# EAGLE library part PAM2306AYPKE (library SamacSys_Parts)
DUAL PWM ST-DOWN DC-DC CONVerter DiodesZetex PAM2306AYPKE, Dual Step Down DC-DC Converter, 1A, Maximum of 3.3 V, 12-Pin WDFN Source: Datasheet <https://componentsearchengine.com/Datasheets/1/PAM2306AYPKE.pdf>
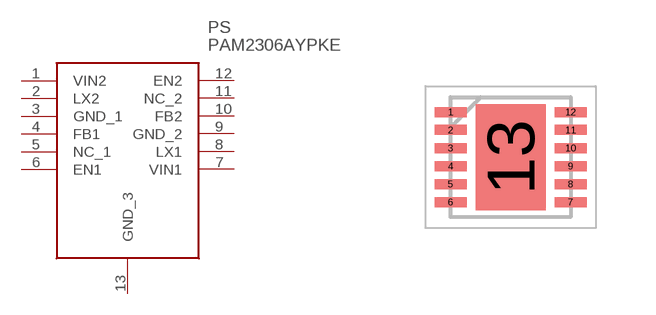
[diagram p0: symbol with the pads of SON45P300X300X80-13N; footprint SON45P300X300X80-13N]

Designator prefix PS

## PAM2306AYPKE (Description: DUAL PWM ST-DOWN DC-DC CONVerter DiodesZetex PAM2306AYPKE, Dual Step Down DC-DC Converter, 1A, Maximum of 3.3 V, 12-Pin WDFN; Height: 0.8mm; Manufacturer_Name: Diodes Inc.; Manufacturer_Part_Number: PAM2306AYPKE; Mouser_Part_Number: 621-PAM2306AYPKE; Mouser_Price-Stock: https://www.mouser.com/Search/Refine.aspx?Keyword=621-PAM2306AYPKE)  [SON45P300X300X80-13N]
1  VIN2  pwr
2  LX2
3  GND_1  pwr
4  FB1  in
5  NC_1
6  EN1  in
7  VIN1  pwr
8  LX1
9  GND_2  pwr
10  FB2  in
11  NC_2
12  EN2  in
13  GND_3  pwr

## Footprint SON45P300X300X80-13N (pad centres in mm)
3x3 mm WDFN 12
smd 0.8 x 0.25: 1 -1.5,1.125; 2 -1.5,0.675; 3 -1.5,0.225; 4 -1.5,-0.225; 5 -1.5,-0.675; 6 -1.5,-1.125; 7 1.5,-1.125; 8 1.5,-0.675; 9 1.5,-0.225; 10 1.5,0.225; 11 1.5,0.675; 12 1.5,1.125
smd 1.75 x 2.65: 13 0,0